# EAGLE library part LTC4305 (library U-Linear-LTC4305-2-Channel-Bus-Multiplexer)
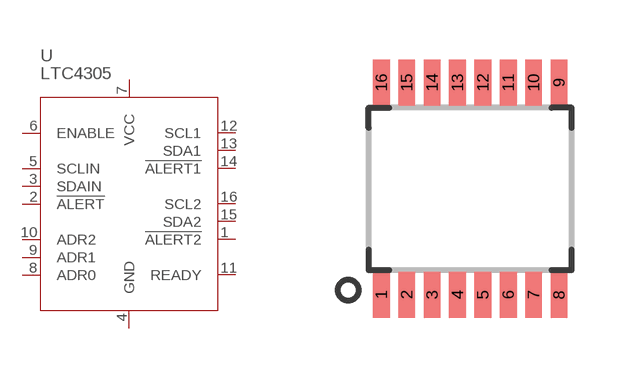
[diagram p0: symbol with the pads of 16-SSOP; footprint 16-SSOP]

Designator prefix -

## LTC4305  [16-SSOP]
1  !ALERT2  in
2  !ALERT  out
3  SDAIN
4  GND  pwr
5  SCLIN
6  ENABLE  in
7  VCC  pwr
8  ADR0  in
9  ADR1  in
10  ADR2  in
11  READY  out
12  SCL1
13  SDA1
14  !ALERT1  in
15  SDA2
16  SCL2

## Footprint 16-SSOP (pad centres in mm)
smd 0.419 x 1.143: 1 -2.223,-2.654; 2 -1.587,-2.654; 3 -0.953,-2.654; 4 -0.318,-2.654; 5 0.318,-2.654; 6 0.953,-2.654; 7 1.587,-2.654; 8 2.223,-2.654; 9 2.223,2.654; 10 1.587,2.654; 11 0.953,2.654; 12 0.318,2.654; 13 -0.318,2.654; 14 -0.953,2.654; 15 -1.587,2.654; 16 -2.223,2.654